# Altium integrated library Analog Devices Data Converters Analog-to-Digital Converters.IntLib: 2404 symbols (part 200 of 346)
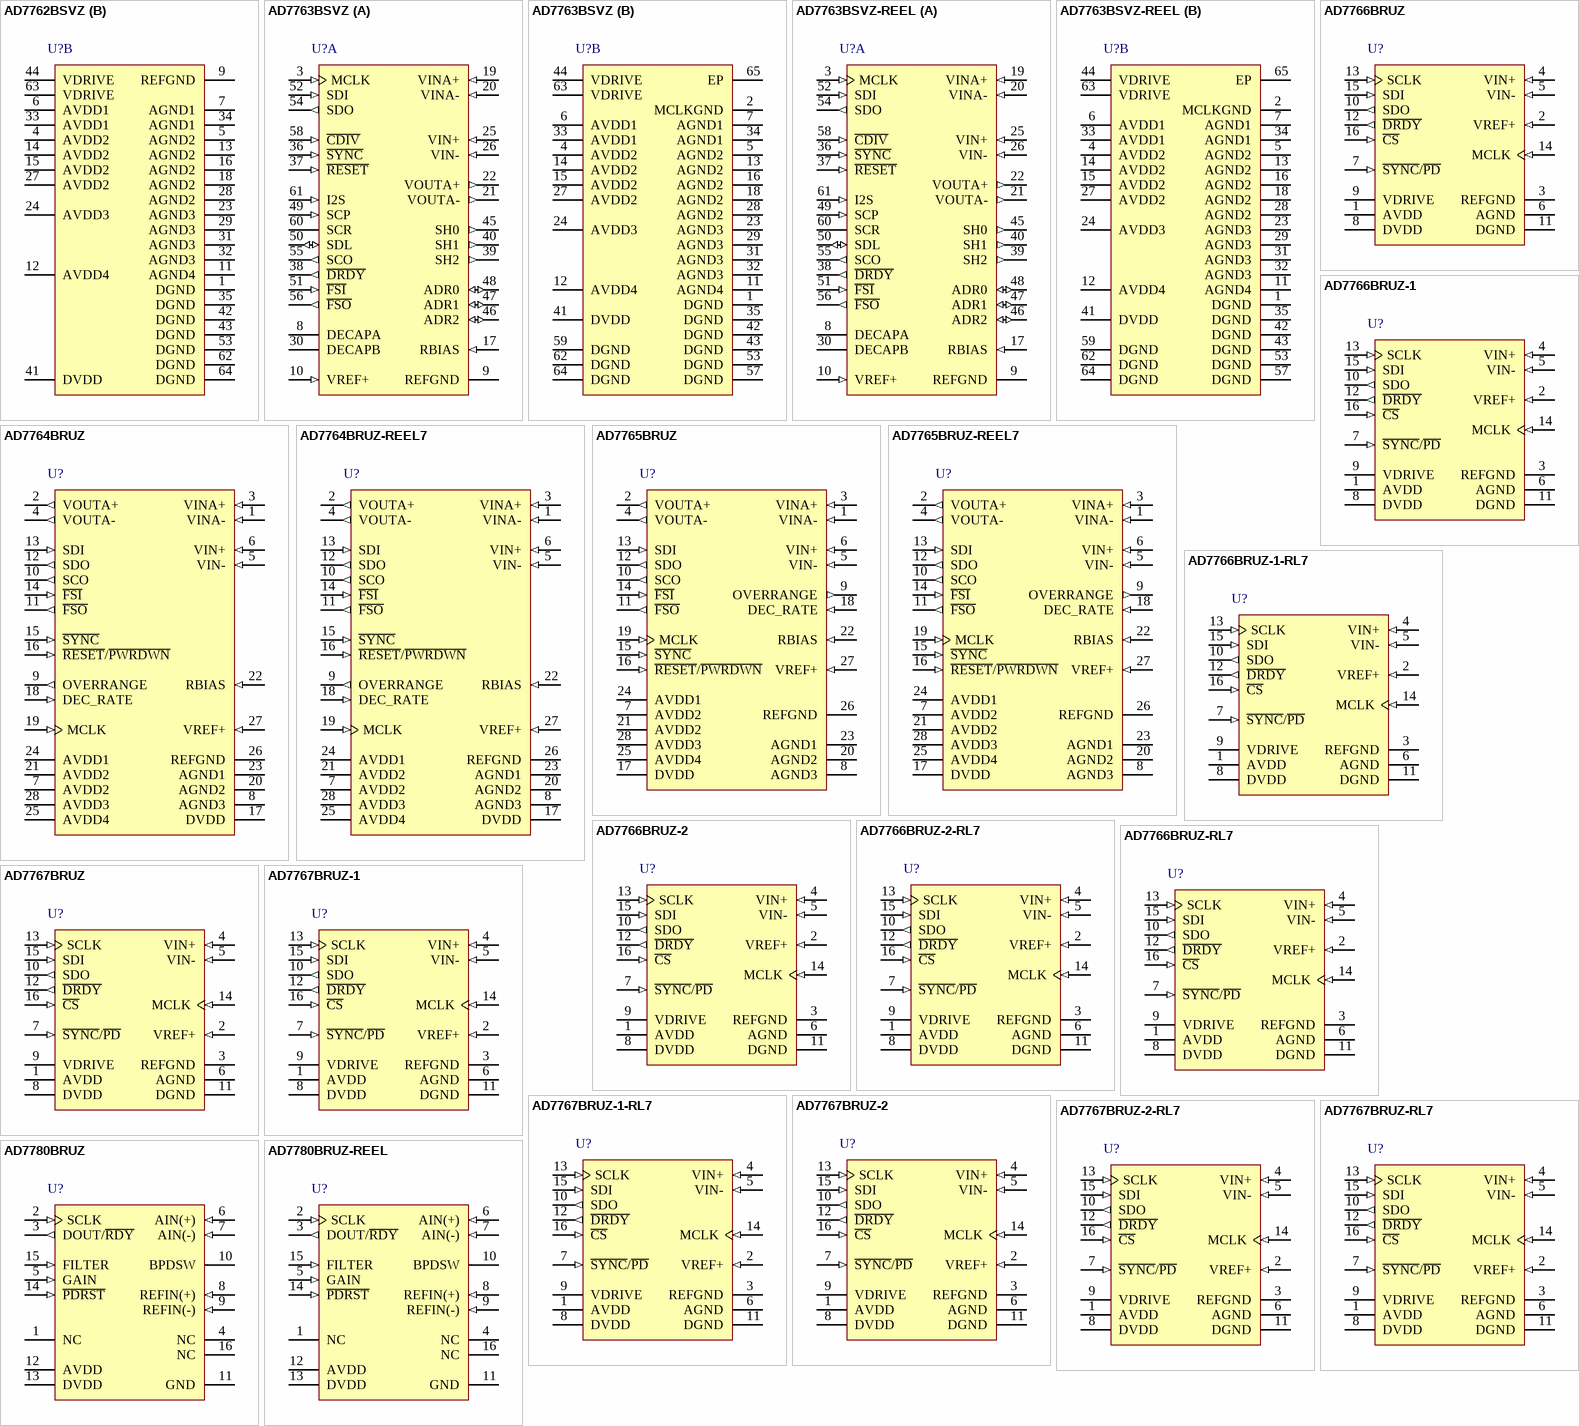
[diagram p263: symbols AD7762BSVZ to AD7780BRUZ-REEL]

## AD7763BSVZ-REEL
designator U?
Single 24-Bit Sigma-Delta Analog-to-Digital Converter with I2S, Serial Interface and On-Chip Buffers, 625KSPS, -40 to +85 degC, SV-64-2, Pb-Free, Reel; Generic Part Number: AD7763; Manufacturer: Analog Devices; PartNumber: AD7763BSVZ-REEL; Resolution (Bits): 24; Channels: 1; Throughput Rate (SPS): 625K; DatasheetVersion: Rev.A; PackageVersion: 2004; PackageReference: SV-64-2; PackageDescription: 64-Lead Thin Quad Flat Package, Exposed Pad [TQFP_EP]; Supplier 1: Digi-Key; Supplier Part Number 1: AD7763BSVZ-REEL-ND; Supplier 2: Mouser; Supplier Part Number 2: 584-AD7763BSVZ-R; Interface: I2S, Ser; RoHS: Y; Packing: Reel; Mounting Technology: Surface Mount; Code_JEDEC: MS-026-ACD-HD; ComponentLink1Description: Manufacturer URL; ComponentLink1URL: http://www.analog.com/en/index.html; ComponentLink2Description: Datasheet; ComponentLink2URL: http://www.analog.com/static/imported-files/data_sheets/AD7763.pdf; ComponentLink3Description: Package Specification; ComponentLink3URL: http://www.analog.com/static/imported-files/packages/PKG_PDF/TQFP_ED(SV)/SV_64_2.pdf; ComponentLink4Description: Product URL; ComponentLink4URL: http://www.analog.com/en/analog-to-digital-converters/ad-converters/ad7763/products/product.html
footprint SV-64-2_N (Thin QFP, 64-Leads, Body 10x10mm, Pitch 0.5mm, Thermal Pad 6.0x6.0mm, IPC Medium Density)
footprint SV-64-2_L (Thin QFP, 64-Leads, Body 10x10mm, Pitch 0.5mm, Thermal Pad 6.0x6.0mm, IPC High Density)
footprint SV-64-2_M (Thin QFP, 64-Leads, Body 10x10mm, Pitch 0.5mm, Thermal Pad 6.0x6.0mm, IPC Low Density)
part A pins: 3 MCLK (in) "Master Clock Input. A low jitter digital clock must be applied to this pin. The output data rate depends on the frequency of this clock. See the Clocking the AD7763 section.", 8 DECAPA "Decoupling Pin. A 100 nF capacitor must be inserted between this pin and AGND1.", 9 REFGND (power) "Reference Ground. Ground connection for the reference voltage", 10 VREF+ (in) "Reference Input. The input range of this pin is determined by the reference buffer  supply voltage (AVDD4). See the Reference Voltage Filtering section for more details.", 17 RBIAS (in) "Bias Current Setting. A resistor must be inserted between this pin and AGND.  See the Bias Resistor Selection section", 19 VINA+ (in) "Positive Input to Differential Amplifier", 20 VINA- (in) "Negative Input to Differential Amplifier", 21 VOUTA- (out) "Negative Output from Differential Amplifier", 22 VOUTA+ (out) "Positive Output from Differential Amplifier.", 25 VIN+ (in) "Positive Input to the Modulator", 26 VIN- (in) "Negative Input to the Modulator.", 30 DECAPB "Decoupling Pin. A 33 pF capacitor must be inserted between this pin and AGND3.", 36 ~{SYNC} (in) "Synchronization Input. A falling edge on this pin resets the internal filter. This can be used  to synchronize multiple devices in a system.", 37 ~{RESET} (in) "A falling edge on this pin resets all internal digital circuitry. Holding this pin low keeps the AD7763 in a reset state.", 38 ~{DRDY} (out) "Data Ready Output. Each time new conversion data is available, an active low pulse 1/2  ICLK period wide, is produced on this pin. See the AD7763 Interface section.", 39 SH2 (out) "Share Pins 2:0. For multiple AD7763 devices sharing a common serial bus. Each device is wired with the binary value that represents the number of devices sharing the serial bus. SH2 is the  MSB. See the Sharing the Serial (See Datasheet)", 40 SH1 (out) "Share Pins 2:0. For multiple AD7763 devices sharing a common serial bus. Each device is wired with the binary value that represents the number of devices sharing the serial bus. SH2 is the  MSB. See the Sharing the Serial (See Datasheet)", 45 SH0 (out) "Share Pins 2:0. For multiple AD7763 devices sharing a common serial bus. Each device is wired with the binary value that represents the number of devices sharing the serial bus. SH2 is the  MSB. See the Sharing the Serial (See Datasheet)", 46 ADR2 (io) "Address 2:0. Allows multiple AD7763 devices to share a common serial bus. Each device must be programmed with an individual address using these three pins. See the Sharing the Serial Bus section.", 47 ADR1 (io) "Address 2:0. Allows multiple AD7763 devices to share a common serial bus. Each device must be programmed with an individual address using these three pins. See the Sharing the Serial Bus section.", 48 ADR0 (io) "Address 2:0. Allows multiple AD7763 devices to share a common serial bus. Each device must be programmed with an individual address using these three pins. See the Sharing the Serial Bus section.", 49 SCP (in) "Serial Clock Polarity. Determines on which edge of SCO the data bits are clocked out and on which edge they are valid. All timing diagrams are shown with SCP = 0, and all SCO edges shown should be inverted for SCP = 1.", 50 SDL (io) "Serial Data Latch. A pulse is output on this pin after every 16 data bits. The pulse is one SCO period wide and can be used in conjunction with F\S\O\ as an alternative framing method for serial transfers requiring a framing (See Datasheet)", 51 ~{FSI} (in) "Frame Sync In. The status of this pin is checked on the falling edge of SCO. If this pin is low, then the first data bit is latched in on the next SCO falling edge when SCP = 0 or on the rising edge of SCO if SCP = 1.", 52 SDI (in) "Serial Data In. The first data bit (MSB) must be valid on the next SCO falling edge when SCP = 0  (or SCO rising edge SCP = 1) after the F\S\I\ event has been latched. Each write requires 32 bits: the ALL bit, 3 address (See Datasheet)", 54 SDO (out) "Serial Data Out. Address, status, and data bits are clocked out on this line during each serial transfer.if SCP = 0, each bit is clocked out on an SCO rising edge and is valid on the falling edge. When the I2S  pin is set to (See Datasheet)", 55 SCO (out) "Serial Clock Out. This clock signal is derived from the internal ICLK signal. The frequency of SCO is equal to either ICLK or ICLK/2, depending on the state of the CDIV and SCR pins When the I2S  pin is logic high, this pin (See Datasheet)", 56 ~{FSO} (out) "Frame Sync Out. This signal frames the serial data output and is 32 SCO periods wide. The exception to the framing behavior of F\S\O\ occurs in decimate x 32 mode, where, for certain combinations of C\D\I\V\ and SCR, the (See Datasheet)", 58 ~{CDIV} (in) "Clock Divider. This pin is used to select the ratio of MCLK to ICLK. See the AD7763 Interface section.", 60 SCR "Serial Clock Rate. This pin and the C\D\I\V\ pin program the SCO frequency (see Table 7).", 61 I2S (in) "I2S Select. A Logic 1 on this pin changes the serial data-out mode from SPI to I2S .The SDO pin outputs as the SD signal, the SCO pin outputs the SCK signal, and the F\S\O\ pin outputs the WS signal. When writing to the (See Datasheet)"
part B pins: 1 DGND (power) "Ground Reference for Digital Circuitry.", 2 MCLKGND (power) "Master Clock Ground Sensing Pin.", 4 AVDD2 (power) "Power Supply, 5 V. These pins should be decoupled to AGND2 with 100 nF capacitors on each of Pin 4, Pin 14, and Pin 15. Pin 27 should be connected to Pin 14 via an 8.2 nH inductor.", 5 AGND2 (power) "Power Supply Ground for Analog Circuitry Powered by AVDD2", 6 AVDD1 (power) "Power Supply for Modulator, 2.5 V. These pins should be decoupled to AGND1 with 100 nF and  10 uF capacitors on each pin.", 7 AGND1 (power) "Power Supply Ground for Analog Circuitry Powered by AVDD1.", 11 AGND4 (power) "Power Supply Ground for Analog Circuitry Powered by AVDD4.", 12 AVDD4 (power) "Power Supply for Reference Buffer, 3.3 V to 5 V. This pin should be decoupled to AGND4  with a 10 nF capacitor in series with a 10 ohm resistor", 13 AGND2 (power) "Power Supply Ground for Analog Circuitry Powered by AVDD2", 14 AVDD2 (power) "Power Supply, 5 V. These pins should be decoupled to AGND2 with 100 nF capacitors on each of Pin 4, Pin 14, and Pin 15. Pin 27 should be connected to Pin 14 via an 8.2 nH inductor.", 15 AVDD2 (power) "Power Supply, 5 V. These pins should be decoupled to AGND2 with 100 nF capacitors on each of Pin 4, Pin 14, and Pin 15. Pin 27 should be connected to Pin 14 via an 8.2 nH inductor.", 16 AGND2 (power) "Power Supply Ground for Analog Circuitry Powered by AVDD2", 18 AGND2 (power) "Power Supply Ground for Analog Circuitry Powered by AVDD2", 23 AGND3 (power) "Power Supply Ground for Analog Circuitry Powered by AVDD3.", 24 AVDD3 (power) "Power Supply for Differential Amplifier, 3.3 V to 5 V. This pin should be decoupled to AGND3  with a 100 nF capacitor.", 27 AVDD2 (power) "Power Supply, 5 V. These pins should be decoupled to AGND2 with 100 nF capacitors on each of Pin 4, Pin 14, and Pin 15. Pin 27 should be connected to Pin 14 via an 8.2 nH inductor.", 28 AGND2 (power) "Power Supply Ground for Analog Circuitry Powered by AVDD2", 29 AGND3 (power) "Power Supply Ground for Analog Circuitry Powered by AVDD3.", 31 AGND3 (power) "Power Supply Ground for Analog Circuitry Powered by AVDD3.", 32 AGND3 (power) "Power Supply Ground for Analog Circuitry Powered by AVDD3.", 33 AVDD1 (power) "Power Supply for Modulator, 2.5 V. These pins should be decoupled to AGND1 with 100 nF and  10 uF capacitors on each pin.", 34 AGND1 (power) "Power Supply Ground for Analog Circuitry Powered by AVDD1.", 35 DGND (power) "Ground Reference for Digital Circuitry.", 41 DVDD (power) "Power Supply for Digital Circuitry and FIR Filter, 2.5 V. This pin should be decoupled to DGND  with a 100 nF capacitor.", 42 DGND (power) "Ground Reference for Digital Circuitry.", 43 DGND (power) "Ground Reference for Digital Circuitry.", 44 VDRIVE (power) "Logic Power Supply Input, 1.8 V to 2.5 V. The voltage supplied at these pins determines the operating voltage of the logic interface. These pins must be connected together and tied to the same supply. Each pin should also be (See Datasheet)", 53 DGND (power) "Ground Reference for Digital Circuitry.", 57 DGND (power) "Ground Reference for Digital Circuitry.", 59 DGND (power) "Ground Reference for Digital Circuitry.", 62 DGND (power) "Ground Reference for Digital Circuitry.", 63 VDRIVE (power) "Logic Power Supply Input, 1.8 V to 2.5 V. The voltage supplied at these pins determines the operating voltage of the logic interface. These pins must be connected together and tied to the same supply. Each pin should also be (See Datasheet)", 64 DGND (power) "Ground Reference for Digital Circuitry.", 65 EP "For proper connection of the exposed pad, refer to the pin configuration and function descriptions section of this  data sheet"

## AD7764BRUZ
designator U?
Single 24-Bit Sigma-Delta Analog-to-Digital Converter with Serial, SPI Interface and On-Chip Buffers, 312KSPS, -40 to +85 degC, RU-28, Pb-Free, Tube; Generic Part Number: AD7764; Manufacturer: Analog Devices; PartNumber: AD7764BRUZ; Resolution (Bits): 24; Channels: 1; Throughput Rate (SPS): 312K; Interface: Ser, SPI; DatasheetVersion: Rev.A; PackageVersion: 2005; PackageReference: RU-28; PackageDescription: 28-Lead Thin Shrink Small Outline Package [TSSOP]; Supplier 1: Digi-Key; Supplier Part Number 1: AD7764BRUZ-ND; Supplier 2: Farnell; Supplier Part Number 2: 1435603; Supplier 3: Newark; Supplier Part Number 3: 50M0820; Supplier 4: Mouser; Supplier Part Number 4: 584-AD7764BRUZ; RoHS: Y; Packing: Tube; Mounting Technology: Surface Mount; Code_JEDEC: MO-153-AE; ComponentLink1Description: Manufacturer URL; ComponentLink1URL: http://www.analog.com/en/index.html; ComponentLink2Description: Datasheet; ComponentLink2URL: http://www.analog.com/static/imported-files/data_sheets/AD7764.pdf; ComponentLink3Description: Package Specification; ComponentLink3URL: http://www.analog.com/static/imported-files/packages/249854663RU_28.pdf; ComponentLink4Description: Product URL; ComponentLink4URL: http://www.analog.com/en/analog-to-digital-converters/ad-converters/ad7764/products/product.html
footprint RU-28_N (TSOP, 28-Leads, Body 9.7x4.4mm, Pitch 0.65mm, IPC Medium Density)
footprint RU-28_L (TSOP, 28-Leads, Body 9.7x4.4mm, Pitch 0.65mm, IPC High Density)
footprint RU-28_M (TSOP, 28-Leads, Body 9.7x4.4mm, Pitch 0.65mm, IPC Low Density)
pins: 1 VINA- (in) "Negative Input to Differential Amplifier.", 2 VOUTA+ (out) "Positive Output from Differential Amplifier.", 3 VINA+ (in) "Positive Input to Differential Amplifier", 4 VOUTA- (out) "Negative Output from Differential Amplifier.", 5 VIN- (in) "Negative Input to the Modulator.", 6 VIN+ (in) "Positive Input to the Modulator.", 7 AVDD2 (power) "5 V Power Supply. Pin 7 should be decoupled to AGND3 (Pin 8) with a 100 nF capacitor. Pin 21 should be decoupled to AGND1 (Pin 23) with a 100 nF capacitor.", 8 AGND3 (power) "Power Supply Ground for Analog Circuitry.", 9 OVERRANGE (out) "Overrange Pin. This pin outputs a logic high to indicate that the user has applied an analog input that is approaching the limit of the analog input to the modulator.", 10 SCO (out) "Serial Clock Out. This clock signal is derived from the internal ICLK signal. The frequency of this clock is equal to ICLK. See the Clocking the AD7764 section for further details.", 11 ~{FSO} (out) "Frame Sync Out. This signal frames the serial data output and is 32 SCO periods wide.", 12 SDO (out) "Serial Data Out. Data and status are output on this pin during each serial transfer. Each bit is clocked out on an SCO rising edge and is valid on the falling edge. See the AD7764 Interface section for further details.", 13 SDI (in) "Serial Data In. The first data bit (MSB) must be valid on the next SCO falling edge after the FSI event is latched. Thirty-two bits are required for each write; the first 16-bit word contains the device and register address, (See Datasheet)", 14 ~{FSI} (in) "Frame Sync Input. The status of this pin is checked on the falling edge of SCO. If this pin is low, then the first data bit is latched in on the next SCO falling edge. See the AD7764 Interface section for further details.", 15 ~{SYNC} (in) "Synchronization Input. A falling edge on this pin resets the internal filter. This can be used to synchronize multiple devices in a system. See the Synchronization section for further details.", 16 ~{RESET}/~{PWRDWN} (in) "Reset/Power-Down Pin. When a logic low is sensed on this pin, the part is powered down and all internal PWRDWN circuitry is reset.", 17 DVDD (power) "2.5 V Power Supply for Digital Circuitry and FIR Filter. This pin should be decoupled to the ground plane with a 100 nF capacitor.", 18 DEC_RATE (in) "Decimation Rate. This pin selects one of the three decimation rate modes. When 2.5 V is applied to this pin,a decimation rate of 64x is selected. A decimation rate of 128x is selected by leaving the pin floating. A (See Datasheet)", 19 MCLK (in) "Master Clock Input. A low jitter digital clock must be applied to this pin. The output data rate depends on the frequency of this clock. See the Clocking the AD7764 section for more details.", 20 AGND2 (power) "Power Supply Ground for Analog Circuitry.", 21 AVDD2 (power) "5 V Power Supply. Pin 7 should be decoupled to AGND3 (Pin 8) with a 100 nF capacitor. Pin 21 should be decoupled to AGND1 (Pin 23) with a 100 nF capacitor.", 22 RBIAS (in) "Bias Current Setting Pin. This pin must be decoupled to the ground plane. For more details, see the Bias Resistor Selection section.", 23 AGND1 (power) "Power Supply Ground for Analog Circuitry.", 24 AVDD1 (power) "2.5 V Power Supply for Modulator. This pin should be decoupled to AGND1 (Pin 23) with a 100 nF capacitor.", 25 AVDD4 (power) "3.3 V to 5 V Power Supply for Reference Buffer. This pin should be decoupled to AGND1 (Pin 23) with a 100 nF capacitor.", 26 REFGND (power) "Reference Ground. Ground connection for the reference voltage.", 27 VREF+ (in) "Reference Input.", 28 AVDD3 (power) "3.3 V to 5 V Power Supply for Differential Amplifier. This pin should be decoupled to the ground plane with a 100 nF capacitor."

## AD7764BRUZ-REEL7
designator U?
Single 24-Bit Sigma-Delta Analog-to-Digital Converter with Serial, SPI Interface and On-Chip Buffers, 312KSPS, -40 to +85 degC, RU-28, Pb-Free, Reel; Generic Part Number: AD7764; Manufacturer: Analog Devices; PartNumber: AD7764BRUZ-REEL7; Resolution (Bits): 24; Channels: 1; Throughput Rate (SPS): 312K; Interface: Ser, SPI; DatasheetVersion: Rev.A; PackageVersion: 2005; PackageReference: RU-28; PackageDescription: 28-Lead Thin Shrink Small Outline Package [TSSOP]; Supplier 1: Digi-Key; Supplier Part Number 1: AD7764BRUZ-REEL7-ND; Supplier 2: Mouser; Supplier Part Number 2: 584-AD7764BRUZ-R7; RoHS: Y; Packing: Reel; Mounting Technology: Surface Mount; Code_JEDEC: MO-153-AE; ComponentLink1Description: Manufacturer URL; ComponentLink1URL: http://www.analog.com/en/index.html; ComponentLink2Description: Datasheet; ComponentLink2URL: http://www.analog.com/static/imported-files/data_sheets/AD7764.pdf; ComponentLink3Description: Package Specification; ComponentLink3URL: http://www.analog.com/static/imported-files/packages/249854663RU_28.pdf; ComponentLink4Description: Product URL; ComponentLink4URL: http://www.analog.com/en/analog-to-digital-converters/ad-converters/ad7764/products/product.html
footprint RU-28_N (TSOP, 28-Leads, Body 9.7x4.4mm, Pitch 0.65mm, IPC Medium Density)
footprint RU-28_L (TSOP, 28-Leads, Body 9.7x4.4mm, Pitch 0.65mm, IPC High Density)
footprint RU-28_M (TSOP, 28-Leads, Body 9.7x4.4mm, Pitch 0.65mm, IPC Low Density)
pins: 1 VINA- (in) "Negative Input to Differential Amplifier.", 2 VOUTA+ (out) "Positive Output from Differential Amplifier.", 3 VINA+ (in) "Positive Input to Differential Amplifier", 4 VOUTA- (out) "Negative Output from Differential Amplifier.", 5 VIN- (in) "Negative Input to the Modulator.", 6 VIN+ (in) "Positive Input to the Modulator.", 7 AVDD2 (power) "5 V Power Supply. Pin 7 should be decoupled to AGND3 (Pin 8) with a 100 nF capacitor. Pin 21 should be decoupled to AGND1 (Pin 23) with a 100 nF capacitor.", 8 AGND3 (power) "Power Supply Ground for Analog Circuitry.", 9 OVERRANGE (out) "Overrange Pin. This pin outputs a logic high to indicate that the user has applied an analog input that is approaching the limit of the analog input to the modulator.", 10 SCO (out) "Serial Clock Out. This clock signal is derived from the internal ICLK signal. The frequency of this clock is equal to ICLK. See the Clocking the AD7764 section for further details.", 11 ~{FSO} (out) "Frame Sync Out. This signal frames the serial data output and is 32 SCO periods wide.", 12 SDO (out) "Serial Data Out. Data and status are output on this pin during each serial transfer. Each bit is clocked out on an SCO rising edge and is valid on the falling edge. See the AD7764 Interface section for further details.", 13 SDI (in) "Serial Data In. The first data bit (MSB) must be valid on the next SCO falling edge after the FSI event is latched. Thirty-two bits are required for each write; the first 16-bit word contains the device and register address, (See Datasheet)", 14 ~{FSI} (in) "Frame Sync Input. The status of this pin is checked on the falling edge of SCO. If this pin is low, then the first data bit is latched in on the next SCO falling edge. See the AD7764 Interface section for further details.", 15 ~{SYNC} (in) "Synchronization Input. A falling edge on this pin resets the internal filter. This can be used to synchronize multiple devices in a system. See the Synchronization section for further details.", 16 ~{RESET}/~{PWRDWN} (in) "Reset/Power-Down Pin. When a logic low is sensed on this pin, the part is powered down and all internal PWRDWN circuitry is reset.", 17 DVDD (power) "2.5 V Power Supply for Digital Circuitry and FIR Filter. This pin should be decoupled to the ground plane with a 100 nF capacitor.", 18 DEC_RATE (in) "Decimation Rate. This pin selects one of the three decimation rate modes. When 2.5 V is applied to this pin,a decimation rate of 64x is selected. A decimation rate of 128x is selected by leaving the pin floating. A (See Datasheet)", 19 MCLK (in) "Master Clock Input. A low jitter digital clock must be applied to this pin. The output data rate depends on the frequency of this clock. See the Clocking the AD7764 section for more details.", 20 AGND2 (power) "Power Supply Ground for Analog Circuitry.", 21 AVDD2 (power) "5 V Power Supply. Pin 7 should be decoupled to AGND3 (Pin 8) with a 100 nF capacitor. Pin 21 should be decoupled to AGND1 (Pin 23) with a 100 nF capacitor.", 22 RBIAS (in) "Bias Current Setting Pin. This pin must be decoupled to the ground plane. For more details, see the Bias Resistor Selection section.", 23 AGND1 (power) "Power Supply Ground for Analog Circuitry.", 24 AVDD1 (power) "2.5 V Power Supply for Modulator. This pin should be decoupled to AGND1 (Pin 23) with a 100 nF capacitor.", 25 AVDD4 (power) "3.3 V to 5 V Power Supply for Reference Buffer. This pin should be decoupled to AGND1 (Pin 23) with a 100 nF capacitor.", 26 REFGND (power) "Reference Ground. Ground connection for the reference voltage.", 27 VREF+ (in) "Reference Input.", 28 AVDD3 (power) "3.3 V to 5 V Power Supply for Differential Amplifier. This pin should be decoupled to the ground plane with a 100 nF capacitor."

## AD7765BRUZ
designator U?
Single 24-Bit Sigma-Delta Analog-to-Digital Converter with Serial, SPI Interface and On-Chip Buffers, 156KSPS, -40 to +85 degC, RU-28, Pb-Free, Tube; Generic Part Number: AD7765; Manufacturer: Analog Devices; PartNumber: AD7765BRUZ; Resolution (Bits): 24; Channels: 1; Throughput Rate (SPS): 156K; Interface: Ser, SPI; DatasheetVersion: Rev.A; PackageVersion: 2005; PackageReference: RU-28; PackageDescription: 28-Lead Thin Shrink Small Outline Package [TSSOP]; Supplier 1: Digi-Key; Supplier Part Number 1: AD7765BRUZ-ND; Supplier 2: Newark; Supplier Part Number 2: 50M0822; Supplier 3: Mouser; Supplier Part Number 3: 584-AD7765BRUZ; RoHS: Y; Packing: Tube; Mounting Technology: Surface Mount; Code_JEDEC: MO-153-AE; ComponentLink1Description: Manufacturer URL; ComponentLink1URL: http://www.analog.com/en/index.html; ComponentLink2Description: Datasheet; ComponentLink2URL: http://www.analog.com/static/imported-files/data_sheets/AD7765.pdf; ComponentLink3Description: Package Specification; ComponentLink3URL: http://www.analog.com/static/imported-files/packages/249854663RU_28.pdf; ComponentLink4Description: Product URL; ComponentLink4URL: http://www.analog.com/en/analog-to-digital-converters/ad-converters/ad7765/products/product.html
footprint RU-28_N (TSOP, 28-Leads, Body 9.7x4.4mm, Pitch 0.65mm, IPC Medium Density)
footprint RU-28_L (TSOP, 28-Leads, Body 9.7x4.4mm, Pitch 0.65mm, IPC High Density)
footprint RU-28_M (TSOP, 28-Leads, Body 9.7x4.4mm, Pitch 0.65mm, IPC Low Density)
pins: 1 VINA- (in) "Negative Input to Differential Amplifier.", 2 VOUTA+ (out) "Positive Output from Differential Amplifier.", 3 VINA+ (in) "Positive Input to Differential Amplifier.", 4 VOUTA- (out) "Negative Output from Differential Amplifier.", 5 VIN- (in) "Negative Input to the Modulator.", 6 VIN+ (in) "Positive Input to the Modulator.", 7 AVDD2 (power) "5 V Power Supply. Pin 7 should be decoupled to AGND3 (Pin 8) with a 100 nF capacitor. Pin 21 should be decoupled to AGND1 (Pin 23) with a 100 nF capacitor.", 8 AGND3 (power) "AGND3 Power - GND False Power Supply Ground for Analog Circuitry.", 9 OVERRANGE (out) "Overrange Pin. This pin outputs a logic high to indicate that the user has applied an analog input that is approaching the limit of the analog input to the modulator.", 10 SCO (out) "Serial Clock Out. This clock signal is derived from the internal ICLK signal. The frequency of this clock is equal to ICLK. See the Clocking the AD7764 section for further details.", 11 ~{FSO} (out) "Frame Sync Out. This signal frames the serial data output and is 32 SCO periods wide.", 12 SDO (out) "Serial Data Out. Data and status are output on this pin during each serial transfer. Each bit is clocked out on an SCO rising edge and is valid on the falling edge. See the AD7764 Interface section for further details.", 13 SDI (in) "Serial Data In. The first data bit (MSB) must be valid on the next SCO falling edge after the F\S\I\ event is latched. Thirty-two bits are required for each write; the first 16-bit word contains the device and register (See Datasheet)", 14 ~{FSI} (in) "Frame Sync Input. The status of this pin is checked on the falling edge of SCO. If this pin is low, then the first data bit is latched in on the next SCO falling edge. See the AD7764 Interface section for further details.", 15 ~{SYNC} (in) "Synchronization Input. A falling edge on this pin resets the internal filter. This can be used to synchronize multiple devices in a system. See the Synchronization section for further details.", 16 ~{RESET}/~{PWRDWN} (in) "Reset/Power-Down Pin. When a logic low is sensed on this pin, the part is powered down and all internal circuitry is reset.", 17 DVDD (power) "2.5 V Power Supply for Digital Circuitry and FIR Filter. This pin should be decoupled to the ground plane with a 100 nF capacitor.", 18 DEC_RATE (in) "Decimation Rate. This pin selects one of the three decimation rate modes. When 2.5 V is applied to this pin,a decimation rate of 64x is selected. A decimation rate of 128x is selected by leaving the pin floating. A (See Datasheet)", 19 MCLK (in) "Master Clock Input. A low jitter digital clock must be applied to this pin. The output data rate depends on the frequency of this clock. See the Clocking the AD7764 section for more details.", 20 AGND2 (power) "Power Supply Ground for Analog Circuitry.", 21 AVDD2 (power) "5 V Power Supply. Pin 7 should be decoupled to AGND3 (Pin 8) with a 100 nF capacitor. Pin 21 should be decoupled to AGND1 (Pin 23) with a 100 nF capacitor.", 22 RBIAS (in) "Bias Current Setting Pin. This pin must be decoupled to the ground plane. For more details, see the Bias Resistor Selection section.", 23 AGND1 (power) "Power Supply Ground for Analog Circuitry.", 24 AVDD1 (power) "2.5 V Power Supply for Modulator. This pin should be decoupled to AGND1 (Pin 23) with a 100 nF capacitor.", 25 AVDD4 (power) "3.3 V to 5 V Power Supply for Reference Buffer. This pin should be decoupled to AGND1 (Pin 23) with a 100 nF capacitor.", 26 REFGND (power) "Reference Ground. Ground connection for the reference voltage.", 27 VREF+ (in) "Reference Input.", 28 AVDD3 (power) "3.3 V to 5 V Power Supply for Differential Amplifier. This pin should be decoupled to the ground plane with a 100 nF capacitor."

## AD7765BRUZ-REEL7
designator U?
Single 24-Bit Sigma-Delta Analog-to-Digital Converter with Serial, SPI Interface and On-Chip Buffers, 156KSPS, -40 to +85 degC, RU-28, Pb-Free, Reel; Generic Part Number: AD7765; Manufacturer: Analog Devices; PartNumber: AD7765BRUZ-REEL7; Resolution (Bits): 24; Channels: 1; Throughput Rate (SPS): 156K; Interface: Ser, SPI; DatasheetVersion: Rev.A; PackageVersion: 2005; PackageReference: RU-28; PackageDescription: 28-Lead Thin Shrink Small Outline Package [TSSOP]; Supplier 1: Digi-Key; Supplier Part Number 1: AD7765BRUZ-REEL7-ND; Supplier 2: Mouser; Supplier Part Number 2: 584-AD7765BRUZ-R7; RoHS: Y; Packing: Reel; Mounting Technology: Surface Mount; Code_JEDEC: MO-153-AE; ComponentLink1Description: Manufacturer URL; ComponentLink1URL: http://www.analog.com/en/index.html; ComponentLink2Description: Datasheet; ComponentLink2URL: http://www.analog.com/static/imported-files/data_sheets/AD7765.pdf; ComponentLink3Description: Package Specification; ComponentLink3URL: http://www.analog.com/static/imported-files/packages/249854663RU_28.pdf; ComponentLink4Description: Product URL; ComponentLink4URL: http://www.analog.com/en/analog-to-digital-converters/ad-converters/ad7765/products/product.html
footprint RU-28_N (TSOP, 28-Leads, Body 9.7x4.4mm, Pitch 0.65mm, IPC Medium Density)
footprint RU-28_L (TSOP, 28-Leads, Body 9.7x4.4mm, Pitch 0.65mm, IPC High Density)
footprint RU-28_M (TSOP, 28-Leads, Body 9.7x4.4mm, Pitch 0.65mm, IPC Low Density)
pins: 1 VINA- (in) "Negative Input to Differential Amplifier.", 2 VOUTA+ (out) "Positive Output from Differential Amplifier.", 3 VINA+ (in) "Positive Input to Differential Amplifier.", 4 VOUTA- (out) "Negative Output from Differential Amplifier.", 5 VIN- (in) "Negative Input to the Modulator.", 6 VIN+ (in) "Positive Input to the Modulator.", 7 AVDD2 (power) "5 V Power Supply. Pin 7 should be decoupled to AGND3 (Pin 8) with a 100 nF capacitor. Pin 21 should be decoupled to AGND1 (Pin 23) with a 100 nF capacitor.", 8 AGND3 (power) "AGND3 Power - GND False Power Supply Ground for Analog Circuitry.", 9 OVERRANGE (out) "Overrange Pin. This pin outputs a logic high to indicate that the user has applied an analog input that is approaching the limit of the analog input to the modulator.", 10 SCO (out) "Serial Clock Out. This clock signal is derived from the internal ICLK signal. The frequency of this clock is equal to ICLK. See the Clocking the AD7764 section for further details.", 11 ~{FSO} (out) "Frame Sync Out. This signal frames the serial data output and is 32 SCO periods wide.", 12 SDO (out) "Serial Data Out. Data and status are output on this pin during each serial transfer. Each bit is clocked out on an SCO rising edge and is valid on the falling edge. See the AD7764 Interface section for further details.", 13 SDI (in) "Serial Data In. The first data bit (MSB) must be valid on the next SCO falling edge after the F\S\I\ event is latched. Thirty-two bits are required for each write; the first 16-bit word contains the device and register (See Datasheet)", 14 ~{FSI} (in) "Frame Sync Input. The status of this pin is checked on the falling edge of SCO. If this pin is low, then the first data bit is latched in on the next SCO falling edge. See the AD7764 Interface section for further details.", 15 ~{SYNC} (in) "Synchronization Input. A falling edge on this pin resets the internal filter. This can be used to synchronize multiple devices in a system. See the Synchronization section for further details.", 16 ~{RESET}/~{PWRDWN} (in) "Reset/Power-Down Pin. When a logic low is sensed on this pin, the part is powered down and all internal circuitry is reset.", 17 DVDD (power) "2.5 V Power Supply for Digital Circuitry and FIR Filter. This pin should be decoupled to the ground plane with a 100 nF capacitor.", 18 DEC_RATE (in) "Decimation Rate. This pin selects one of the three decimation rate modes. When 2.5 V is applied to this pin,a decimation rate of 64x is selected. A decimation rate of 128x is selected by leaving the pin floating. A (See Datasheet)", 19 MCLK (in) "Master Clock Input. A low jitter digital clock must be applied to this pin. The output data rate depends on the frequency of this clock. See the Clocking the AD7764 section for more details.", 20 AGND2 (power) "Power Supply Ground for Analog Circuitry.", 21 AVDD2 (power) "5 V Power Supply. Pin 7 should be decoupled to AGND3 (Pin 8) with a 100 nF capacitor. Pin 21 should be decoupled to AGND1 (Pin 23) with a 100 nF capacitor.", 22 RBIAS (in) "Bias Current Setting Pin. This pin must be decoupled to the ground plane. For more details, see the Bias Resistor Selection section.", 23 AGND1 (power) "Power Supply Ground for Analog Circuitry.", 24 AVDD1 (power) "2.5 V Power Supply for Modulator. This pin should be decoupled to AGND1 (Pin 23) with a 100 nF capacitor.", 25 AVDD4 (power) "3.3 V to 5 V Power Supply for Reference Buffer. This pin should be decoupled to AGND1 (Pin 23) with a 100 nF capacitor.", 26 REFGND (power) "Reference Ground. Ground connection for the reference voltage.", 27 VREF+ (in) "Reference Input.", 28 AVDD3 (power) "3.3 V to 5 V Power Supply for Differential Amplifier. This pin should be decoupled to the ground plane with a 100 nF capacitor."

## AD7766BRUZ
designator U?
Single 24-Bit Analog-to-Digital Converter with Serial Interface, 128KSPS, -40 to +105 degC, RU-16, Pb-Free, Tube; Generic Part Number: AD7766; Manufacturer: Analog Devices; PartNumber: AD7766BRUZ; Resolution (Bits): 24; Channels: 1; Throughput Rate (SPS): 128K; Interface: Ser; DatasheetVersion: Rev.C; PackageVersion: Nov-2002; PackageReference: RU-16; PackageDescription: 16-Lead Thin Shrink Small Outline Package [TSSOP]; Supplier 1: Digi-Key; Supplier Part Number 1: AD7766BRUZ-ND; Supplier 2: Farnell; Supplier Part Number 2: 1607231; Supplier 3: Newark; Supplier Part Number 3: 54M6748; Supplier 4: Mouser; Supplier Part Number 4: 584-AD7766BRUZ; RoHS: Y; Packing: Tube; Mounting Technology: Surface Mount; Code_JEDEC: MO-153-AB; ComponentLink1Description: Manufacturer URL; ComponentLink1URL: http://www.analog.com/en/index.html; ComponentLink2Description: Datasheet; ComponentLink2URL: http://www.analog.com/static/imported-files/data_sheets/AD7766.pdf; ComponentLink3Description: Package Specification; ComponentLink3URL: http://www.analog.com/static/imported-files/packages/36244347913743854010197452789RU16.pdf; ComponentLink4Description: Product URL; ComponentLink4URL: http://www.analog.com/en/analog-to-digital-converters/ad-converters/ad7766/products/product.html
footprint RU-16_N (TSOP, 16-Leads, Body 5x4.4mm, Pitch 0.65mm, IPC Medium Density)
footprint RU-16_L (TSOP, 16-Leads, Body 5x4.4mm, Pitch 0.65mm, IPC High Density)
footprint RU-16_M (TSOP, 16-Leads, Body 5x4.4mm, Pitch 0.65mm, IPC Low Density)
pins: 1 AVDD (power) "+2.5 V Analog Power Supply.", 2 VREF+ (in) "Reference Input for the AD7766/AD7766-1/AD7766-2. An external reference must be applied to this input pin. The VREF+ input can range from 2.4 V to 5 V. The reference voltage input is independent of the voltage magnitude (See Datasheet)", 3 REFGND (power) "Reference Ground. Ground connection for the reference voltage. The input reference voltage (VREF+) should be decoupled to this pin.", 4 VIN+ (in) "Positive Input of the Differential Analog Input.", 5 VIN- (in) "Negative Input of the Differential Analog Input.", 6 AGND (power) "Power Supply Ground for Analog Circuitry.", 7 ~{SYNC}/~{PD} (in) "Synchronization and Power-Down Input Pin. This pin has dual functionality. It can be used to synchronize multiple AD7766/AD7766-1/AD7766-2 devices and/or to put the AD7766/AD7766-1/AD7766-2 devices into power-down mode. See (See Datasheet)", 8 DVDD (power) "2.5 V Digital Power Supply Input. In cases where a logic voltage of 2.5 V for interfacing is used, (2.5 V applied to VDRIVE pin), the DVDD and VDRIVE pins may be connected to the same voltage supply rail.", 9 VDRIVE (power) "Logic Power Supply Input, 1.8 V to 3.6 V. The voltage supplied at this pin determines the operating voltage of the digital logic interface.", 10 SDO (out) "Serial Data Output. The conversion result from the AD7766/AD7766-1/AD7766-2 is output on the SDO pin as a 24-bit, twos complement, MSB first, serial data stream.", 11 DGND (power) "Digital Logic Power Supply Ground.", 12 ~{DRDY} (out) "Data Ready Output. A falling edge on the D\R\D\Y\ signal indicates that a new conversion data result is available in the output register of the AD7766/AD7766-1/AD7766-2. See the AD7766/AD7766-1/AD77662-2 Interface section (See Datasheet)", 13 SCLK (in) "Serial Clock Input. The SCLK input provides the serial clock for all serial data transfers with the AD7766/AD7766-1/AD7766-2  devices. See the AD7766/AD7766-1/AD77662-2 Interface section for further details.", 14 MCLK (in) "Master Clock Input. The sampling frequency of the AD7766/AD7766-1/AD7766-2 is equal to the MCLK frequency.", 15 SDI (in) "Serial Data Input. This is the daisy-chain input of the AD7766/AD7766-1/AD7766-2. See the Daisy Chaining section for further details.", 16 ~{CS} (in) "Chip Select Input. The C\S\ input selects a specific AD7766/AD7766-1/AD7766-2 device and acts as an enable on the SDO pin. In cases where C\S\ is used, the MSB of the conversion result is clocked onto the SDO line on the (See Datasheet)"

## AD7766BRUZ-1
designator U?
Single 24-Bit Analog-to-Digital Converter with Serial Interface, 128KSPS, -40 to +105 degC, RU-16, Pb-Free, Tube; Generic Part Number: AD7766; Manufacturer: Analog Devices; PartNumber: AD7766BRUZ-1; Resolution (Bits): 24; Channels: 1; Throughput Rate (SPS): 128K; Interface: Ser; DatasheetVersion: Rev.C; PackageVersion: Nov-2002; PackageReference: RU-16; PackageDescription: 16-Lead Thin Shrink Small Outline Package [TSSOP]; Supplier 1: Digi-Key; Supplier Part Number 1: AD7766BRUZ-1-ND; RoHS: Y; Packing: Tube; Mounting Technology: Surface Mount; Code_JEDEC: MO-153-AB; ComponentLink1Description: Manufacturer URL; ComponentLink1URL: http://www.analog.com/en/index.html; ComponentLink2Description: Datasheet; ComponentLink2URL: http://www.analog.com/static/imported-files/data_sheets/AD7766.pdf; ComponentLink3Description: Package Specification; ComponentLink3URL: http://www.analog.com/static/imported-files/packages/36244347913743854010197452789RU16.pdf; ComponentLink4Description: Product URL; ComponentLink4URL: http://www.analog.com/en/analog-to-digital-converters/ad-converters/ad7766/products/product.html
footprint RU-16_N (TSOP, 16-Leads, Body 5x4.4mm, Pitch 0.65mm, IPC Medium Density)
footprint RU-16_L (TSOP, 16-Leads, Body 5x4.4mm, Pitch 0.65mm, IPC High Density)
footprint RU-16_M (TSOP, 16-Leads, Body 5x4.4mm, Pitch 0.65mm, IPC Low Density)
pins: 1 AVDD (power) "+2.5 V Analog Power Supply.", 2 VREF+ (in) "Reference Input for the AD7766/AD7766-1/AD7766-2. An external reference must be applied to this input pin. The VREF+ input can range from 2.4 V to 5 V. The reference voltage input is independent of the voltage magnitude (See Datasheet)", 3 REFGND (power) "Reference Ground. Ground connection for the reference voltage. The input reference voltage (VREF+) should be decoupled to this pin.", 4 VIN+ (in) "Positive Input of the Differential Analog Input.", 5 VIN- (in) "Negative Input of the Differential Analog Input.", 6 AGND (power) "Power Supply Ground for Analog Circuitry.", 7 ~{SYNC}/~{PD} (in) "Synchronization and Power-Down Input Pin. This pin has dual functionality. It can be used to synchronize multiple AD7766/AD7766-1/AD7766-2 devices and/or to put the AD7766/AD7766-1/AD7766-2 devices into power-down mode. See (See Datasheet)", 8 DVDD (power) "2.5 V Digital Power Supply Input. In cases where a logic voltage of 2.5 V for interfacing is used, (2.5 V applied to VDRIVE pin), the DVDD and VDRIVE pins may be connected to the same voltage supply rail.", 9 VDRIVE (power) "Logic Power Supply Input, 1.8 V to 3.6 V. The voltage supplied at this pin determines the operating voltage of the digital logic interface.", 10 SDO (out) "Serial Data Output. The conversion result from the AD7766/AD7766-1/AD7766-2 is output on the SDO pin as a 24-bit, twos complement, MSB first, serial data stream.", 11 DGND (power) "Digital Logic Power Supply Ground.", 12 ~{DRDY} (out) "Data Ready Output. A falling edge on the D\R\D\Y\ signal indicates that a new conversion data result is available in the output register of the AD7766/AD7766-1/AD7766-2. See the AD7766/AD7766-1/AD77662-2 Interface section (See Datasheet)", 13 SCLK (in) "Serial Clock Input. The SCLK input provides the serial clock for all serial data transfers with the AD7766/AD7766-1/AD7766-2  devices. See the AD7766/AD7766-1/AD77662-2 Interface section for further details.", 14 MCLK (in) "Master Clock Input. The sampling frequency of the AD7766/AD7766-1/AD7766-2 is equal to the MCLK frequency.", 15 SDI (in) "Serial Data Input. This is the daisy-chain input of the AD7766/AD7766-1/AD7766-2. See the Daisy Chaining section for further details.", 16 ~{CS} (in) "Chip Select Input. The C\S\ input selects a specific AD7766/AD7766-1/AD7766-2 device and acts as an enable on the SDO pin. In cases where C\S\ is used, the MSB of the conversion result is clocked onto the SDO line on the (See Datasheet)"

## AD7766BRUZ-1-RL7
designator U?
Single 24-Bit Analog-to-Digital Converter with Serial Interface, 128KSPS, -40 to +105 degC, RU-16, Pb-Free, Reel; Generic Part Number: AD7766; Manufacturer: Analog Devices; PartNumber: AD7766BRUZ-1-RL7; Resolution (Bits): 24; Channels: 1; Throughput Rate (SPS): 128K; Interface: Ser; DatasheetVersion: Rev.C; PackageVersion: Nov-2002; PackageReference: RU-16; PackageDescription: 16-Lead Thin Shrink Small Outline Package [TSSOP]; Supplier 1: Digi-Key; Supplier Part Number 1: AD7766BRUZ-1-RL7-ND; Supplier 2: Mouser; Supplier Part Number 2: 584-AD7766BRUZ-1-R7; RoHS: Y; Packing: Reel; Mounting Technology: Surface Mount; Code_JEDEC: MO-153-AB; ComponentLink1Description: Manufacturer URL; ComponentLink1URL: http://www.analog.com/en/index.html; ComponentLink2Description: Datasheet; ComponentLink2URL: http://www.analog.com/static/imported-files/data_sheets/AD7766.pdf; ComponentLink3Description: Package Specification; ComponentLink3URL: http://www.analog.com/static/imported-files/packages/36244347913743854010197452789RU16.pdf; ComponentLink4Description: Product URL; ComponentLink4URL: http://www.analog.com/en/analog-to-digital-converters/ad-converters/ad7766/products/product.html
footprint RU-16_N (TSOP, 16-Leads, Body 5x4.4mm, Pitch 0.65mm, IPC Medium Density)
footprint RU-16_L (TSOP, 16-Leads, Body 5x4.4mm, Pitch 0.65mm, IPC High Density)
footprint RU-16_M (TSOP, 16-Leads, Body 5x4.4mm, Pitch 0.65mm, IPC Low Density)
pins: 1 AVDD (power) "+2.5 V Analog Power Supply.", 2 VREF+ (in) "Reference Input for the AD7766/AD7766-1/AD7766-2. An external reference must be applied to this input pin. The VREF+ input can range from 2.4 V to 5 V. The reference voltage input is independent of the voltage magnitude (See Datasheet)", 3 REFGND (power) "Reference Ground. Ground connection for the reference voltage. The input reference voltage (VREF+) should be decoupled to this pin.", 4 VIN+ (in) "Positive Input of the Differential Analog Input.", 5 VIN- (in) "Negative Input of the Differential Analog Input.", 6 AGND (power) "Power Supply Ground for Analog Circuitry.", 7 ~{SYNC}/~{PD} (in) "Synchronization and Power-Down Input Pin. This pin has dual functionality. It can be used to synchronize multiple AD7766/AD7766-1/AD7766-2 devices and/or to put the AD7766/AD7766-1/AD7766-2 devices into power-down mode. See (See Datasheet)", 8 DVDD (power) "2.5 V Digital Power Supply Input. In cases where a logic voltage of 2.5 V for interfacing is used, (2.5 V applied to VDRIVE pin), the DVDD and VDRIVE pins may be connected to the same voltage supply rail.", 9 VDRIVE (power) "Logic Power Supply Input, 1.8 V to 3.6 V. The voltage supplied at this pin determines the operating voltage of the digital logic interface.", 10 SDO (out) "Serial Data Output. The conversion result from the AD7766/AD7766-1/AD7766-2 is output on the SDO pin as a 24-bit, twos complement, MSB first, serial data stream.", 11 DGND (power) "Digital Logic Power Supply Ground.", 12 ~{DRDY} (out) "Data Ready Output. A falling edge on the D\R\D\Y\ signal indicates that a new conversion data result is available in the output register of the AD7766/AD7766-1/AD7766-2. See the AD7766/AD7766-1/AD77662-2 Interface section (See Datasheet)", 13 SCLK (in) "Serial Clock Input. The SCLK input provides the serial clock for all serial data transfers with the AD7766/AD7766-1/AD7766-2  devices. See the AD7766/AD7766-1/AD77662-2 Interface section for further details.", 14 MCLK (in) "Master Clock Input. The sampling frequency of the AD7766/AD7766-1/AD7766-2 is equal to the MCLK frequency.", 15 SDI (in) "Serial Data Input. This is the daisy-chain input of the AD7766/AD7766-1/AD7766-2. See the Daisy Chaining section for further details.", 16 ~{CS} (in) "Chip Select Input. The C\S\ input selects a specific AD7766/AD7766-1/AD7766-2 device and acts as an enable on the SDO pin. In cases where C\S\ is used, the MSB of the conversion result is clocked onto the SDO line on the (See Datasheet)"

## AD7766BRUZ-2
designator U?
Single 24-Bit Analog-to-Digital Converter with Serial Interface, 128KSPS, -40 to +105 degC, RU-16, Pb-Free, Tube; Generic Part Number: AD7766; Manufacturer: Analog Devices; PartNumber: AD7766BRUZ-2; Resolution (Bits): 24; Channels: 1; Throughput Rate (SPS): 128K; Interface: Ser; DatasheetVersion: Rev.C; PackageVersion: Nov-2002; PackageReference: RU-16; PackageDescription: 16-Lead Thin Shrink Small Outline Package [TSSOP]; Supplier 1: Digi-Key; Supplier Part Number 1: AD7766BRUZ-2-ND; Supplier 2: Farnell; Supplier Part Number 2: 2312780; Supplier 3: Newark; Supplier Part Number 3: 54M6752; Supplier 4: Mouser; Supplier Part Number 4: 584-AD7766BRUZ-2; RoHS: Y; Packing: Tube; Mounting Technology: Surface Mount; Code_JEDEC: MO-153-AB; ComponentLink1Description: Manufacturer URL; ComponentLink1URL: http://www.analog.com/en/index.html; ComponentLink2Description: Datasheet; ComponentLink2URL: http://www.analog.com/static/imported-files/data_sheets/AD7766.pdf; ComponentLink3Description: Package Specification; ComponentLink3URL: http://www.analog.com/static/imported-files/packages/36244347913743854010197452789RU16.pdf; ComponentLink4Description: Product URL; ComponentLink4URL: http://www.analog.com/en/analog-to-digital-converters/ad-converters/ad7766/products/product.html
footprint RU-16_N (TSOP, 16-Leads, Body 5x4.4mm, Pitch 0.65mm, IPC Medium Density)
footprint RU-16_L (TSOP, 16-Leads, Body 5x4.4mm, Pitch 0.65mm, IPC High Density)
footprint RU-16_M (TSOP, 16-Leads, Body 5x4.4mm, Pitch 0.65mm, IPC Low Density)
pins: 1 AVDD (power) "+2.5 V Analog Power Supply.", 2 VREF+ (in) "Reference Input for the AD7766/AD7766-1/AD7766-2. An external reference must be applied to this input pin. The VREF+ input can range from 2.4 V to 5 V. The reference voltage input is independent of the voltage magnitude (See Datasheet)", 3 REFGND (power) "Reference Ground. Ground connection for the reference voltage. The input reference voltage (VREF+) should be decoupled to this pin.", 4 VIN+ (in) "Positive Input of the Differential Analog Input.", 5 VIN- (in) "Negative Input of the Differential Analog Input.", 6 AGND (power) "Power Supply Ground for Analog Circuitry.", 7 ~{SYNC}/~{PD} (in) "Synchronization and Power-Down Input Pin. This pin has dual functionality. It can be used to synchronize multiple AD7766/AD7766-1/AD7766-2 devices and/or to put the AD7766/AD7766-1/AD7766-2 devices into power-down mode. See (See Datasheet)", 8 DVDD (power) "2.5 V Digital Power Supply Input. In cases where a logic voltage of 2.5 V for interfacing is used, (2.5 V applied to VDRIVE pin), the DVDD and VDRIVE pins may be connected to the same voltage supply rail.", 9 VDRIVE (power) "Logic Power Supply Input, 1.8 V to 3.6 V. The voltage supplied at this pin determines the operating voltage of the digital logic interface.", 10 SDO (out) "Serial Data Output. The conversion result from the AD7766/AD7766-1/AD7766-2 is output on the SDO pin as a 24-bit, twos complement, MSB first, serial data stream.", 11 DGND (power) "Digital Logic Power Supply Ground.", 12 ~{DRDY} (out) "Data Ready Output. A falling edge on the D\R\D\Y\ signal indicates that a new conversion data result is available in the output register of the AD7766/AD7766-1/AD7766-2. See the AD7766/AD7766-1/AD77662-2 Interface section (See Datasheet)", 13 SCLK (in) "Serial Clock Input. The SCLK input provides the serial clock for all serial data transfers with the AD7766/AD7766-1/AD7766-2  devices. See the AD7766/AD7766-1/AD77662-2 Interface section for further details.", 14 MCLK (in) "Master Clock Input. The sampling frequency of the AD7766/AD7766-1/AD7766-2 is equal to the MCLK frequency.", 15 SDI (in) "Serial Data Input. This is the daisy-chain input of the AD7766/AD7766-1/AD7766-2. See the Daisy Chaining section for further details.", 16 ~{CS} (in) "Chip Select Input. The C\S\ input selects a specific AD7766/AD7766-1/AD7766-2 device and acts as an enable on the SDO pin. In cases where C\S\ is used, the MSB of the conversion result is clocked onto the SDO line on the (See Datasheet)"